# EAGLE library part NSI8021N1-DSPR (library NSI8021N1-DSPR)
50Mbps Half-Duplex RS-485/RS-422 Transceiver with High EFT Immunity Source: Datasheet <https://datasheets.maximintegrated.com/en/ds/MAX22506E.pdf>
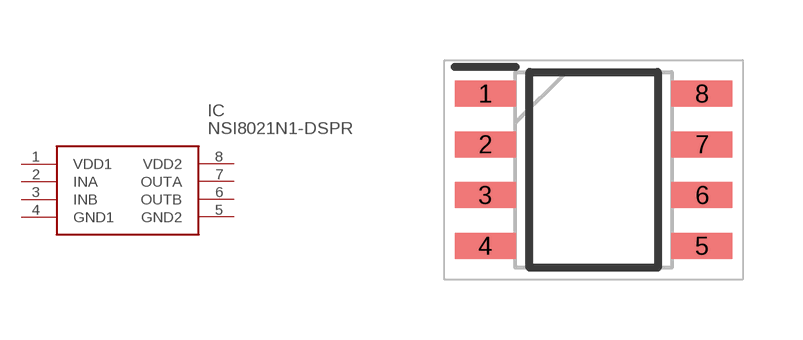
[diagram p0: symbol with the pads of SOIC127P600X175-8N; footprint SOIC127P600X175-8N]

Designator prefix IC

## NSI8021N1-DSPR (DESCRIPTION: 50Mbps Half-Duplex RS-485/RS-422 Transceiver with High EFT Immunity; HEIGHT: 1.75mm; MANUFACTURER_NAME: Maxim Integrated; MANUFACTURER_PART_NUMBER: MAX22506EASA+; MOUSER_PART_NUMBER: 700-MAX22506EASA+; MOUSER_PRICE-STOCK: https://www.mouser.co.uk/ProductDetail/Maxim-Integrated/MAX22506EASA%2b?qs=DRkmTr78QARfKAj85YrvXQ%3D%3D)  [SOIC127P600X175-8N]
1  VDD1
2  INA
3  INB
4  GND1
5  GND2
6  OUTB
7  OUTA
8  VDD2

## Footprint SOIC127P600X175-8N (pad centres in mm)
S8+2C
smd 1.525 x 0.65: 1 -2.712,1.905; 2 -2.712,0.635; 3 -2.712,-0.635; 4 -2.712,-1.905; 5 2.712,-1.905; 6 2.712,-0.635; 7 2.712,0.635; 8 2.712,1.905